# EAGLE library part LL1922 (library lundahl)
LL1922
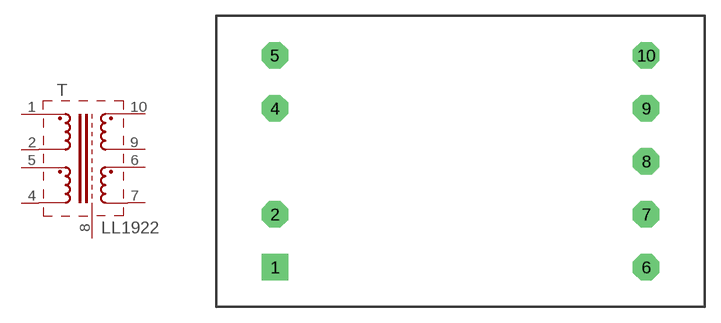
[diagram p30: symbol with the pads of LL1922; footprint LL1922]

Designator prefix T

## LL1922  [LL1922]
1  1  pas
2  2  pas
4  4  pas
5  5  pas
6  6  pas
7  7  pas
8  8  pas
9  9  pas
10  10  pas

## Footprint LL1922 (pad centres in mm)
LL1922
drill 1.422 pad 2.54 square: 1 -17.78,-10.16
drill 1.422 pad 2.54 octagon: 2 -17.78,-5.08; 4 -17.78,5.08; 5 -17.78,10.16; 6 17.78,-10.16; 7 17.78,-5.08; 8 17.78,0; 9 17.78,5.08; 10 17.78,10.16